# Altium schematic symbol library Header 2.SchLib: 1 symbol
Pins are listed as number, name and electrical type; pins without a type are passive.

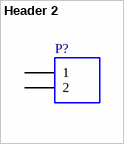
[diagram p0: symbol Header 2]

## Header 2
designator P?
Header, 2-Pin
pins: 1, 2